# EAGLE library part CON_10 (library skinnerbox_library)
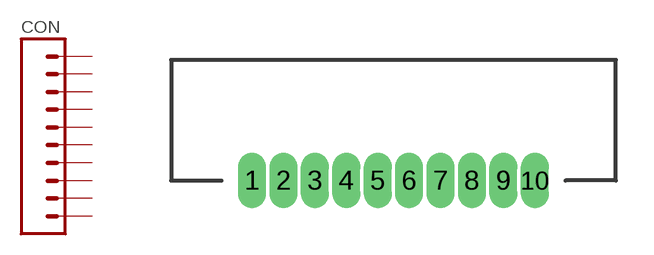
[diagram p4: symbol with the pads of CON_10P_1.25_ALIEXPRESS; footprint CON_10P_1.25_ALIEXPRESS]

Designator prefix CON

## CON_10  [CON_10P_1.25_ALIEXPRESS]
1  1  pas
2  2  pas
3  3  pas
4  4  pas
5  5  pas
6  6  pas
7  7  pas
8  8  pas
9  9  pas
10  10  pas

## Footprint CON_10P_1.25_ALIEXPRESS (pad centres in mm)
drill 0.6 pad 1 long: 1 3.225,0; 2 4.475,0; 3 5.725,0; 4 6.975,0; 5 8.225,0; 6 9.475,0; 7 10.725,0; 8 11.975,0; 9 13.225,0; 10 14.475,0